# Altium integrated library Other_ICs.IntLib: 4 symbols
Pins are listed as number, name and electrical type; pins without a type are passive.

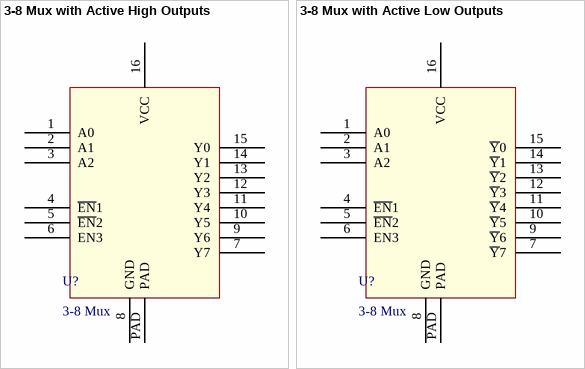
[diagram p0: symbols 3-8 Mux with Active High Outputs to 3-8 Mux with Active Low Outputs]

## 3-8 Mux with Active High Outputs
designator U?, comment 3-8 Mux
74HCT238BQ; Manufacturer Part No.: 74HCT238BQ,115; Digi-Key Part No.: 568-9248-1-ND
footprint DHVQFN
pins: 1 A0, 2 A1, 3 A2, 4 ~{EN}1, 5 ~{EN}2, 6 EN3, 7 Y7, 8 GND, 9 Y6, 10 Y5, 11 Y4, 12 Y3, 13 Y2, 14 Y1, 15 Y0, 16 VCC, PAD

## 3-8 Mux with Active Low Outputs
designator U?, comment 3-8 Mux
74HC138BQ; Manufacturer Part No.: 74HC138BQ,115; Digi-Key Part No.: 568-2607-1-ND
footprint DHVQFN
pins: 1 A0, 2 A1, 3 A2, 4 ~{EN}1, 5 ~{EN}2, 6 EN3, 7 ~{Y}7, 8 GND, 9 ~{Y}6, 10 ~{Y}5, 11 ~{Y}4, 12 ~{Y}3, 13 ~{Y}2, 14 ~{Y}1, 15 ~{Y}0, 16 VCC, PAD


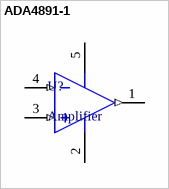
[diagram p1: symbol ADA4891-1]

## ADA4891-1
designator U?, comment Amplifier
SOT-23 Amplifier; Manufacturer Part No.: ADA4891-1ARJZ-R7; Bandwidth: 240MHz; Digi-Key Part No.: ADA4891-1ARJZ-R7CT-ND
footprint SOT23 Amplifier
pins: 1 OUT (out), 2 V- (power), 3 IN+ (in), 4 IN- (in), 5 V+ (power)


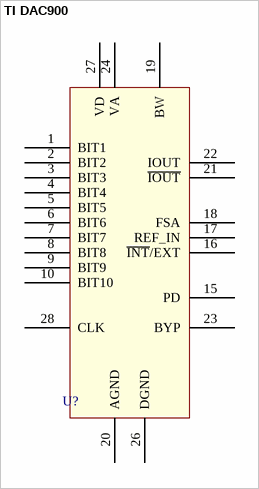
[diagram p2: symbol TI DAC900]

## TI DAC900
designator U?, comment DAC900  (value not drawn)
10-bit DAC; Manufacturer Part No.: DAC900U; Digi-Key Part No.: DAC900U-ND
footprint TI DAC900 (TI 10-bit SOIC)
pins: 1 BIT1, 2 BIT2, 3 BIT3, 4 BIT4, 5 BIT5, 6 BIT6, 7 BIT7, 8 BIT8, 9 BIT9, 10 BIT10, 15 PD, 16 ~{INT}/EXT, 17 REF_IN, 18 FSA, 19 BW, 20 AGND, 21 ~{IOUT}, 22 IOUT, 23 BYP, 24 VA, 26 DGND, 27 VD, 28 CLK